# Altium schematic symbol library BAT54JFILM.SchLib: 1 symbol
Pins are listed as number, name and electrical type; pins without a type are passive.

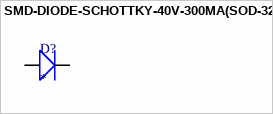
[diagram p0: symbol SMD-DIODE-SCHOTTKY-40V-300MA(SOD-323)]

## SMD-DIODE-SCHOTTKY-40V-300MA(SOD-323)
designator D?
304020019; MF: {'manufacturer': u'STMicroelectronics'}; MP: SMD-DIODE-SCHOTTKY-40V-300MA(SOD-323); Package: None; Price: None; Value: *; Availability: Unavailable
footprint SOD-323
pins: NEG, POS